# EAGLE library part I__4528 (library ..SMD)
Dual monostable MULTIVIBRATOR
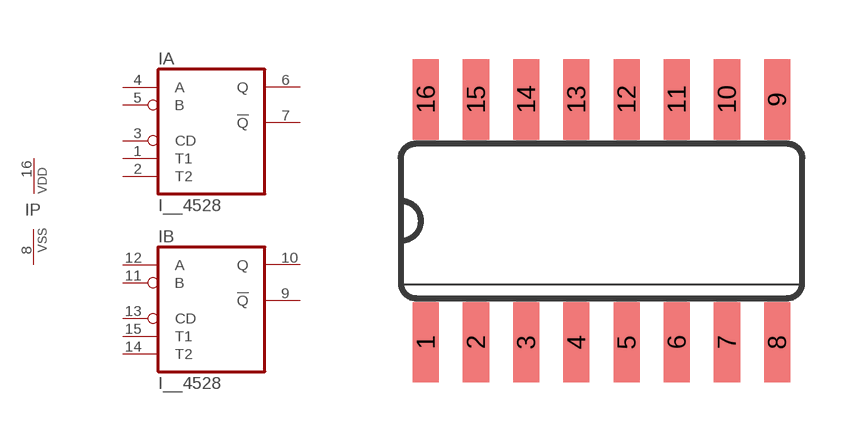
[diagram p112: symbol with the pads of SO16; footprint SO16]

Designator prefix I; gates A=4528 B=4528 P=PWRN

## I__4528D  [SO16]
1  A:T1  in
2  A:T2  in
3  A:CD  in
4  A:A  in
5  A:B  in
6  A:Q  out
7  A:!Q  out
8  P:VSS  pwr
9  B:!Q  out
10  B:Q  out
11  B:B  in
12  B:A  in
13  B:CD  in
14  B:T2  in
15  B:T1  in
16  P:VDD  pwr

## Footprint SO16 (pad centres in mm)
Small Outline Package 16
smd 0.66 x 2.032: 1 -4.445,-3.073; 2 -3.175,-3.073; 3 -1.905,-3.073; 4 -0.635,-3.073; 5 0.635,-3.073; 6 1.905,-3.073; 7 3.175,-3.073; 8 4.445,-3.073; 9 4.445,3.073; 10 3.175,3.073; 11 1.905,3.073; 12 0.635,3.073; 13 -0.635,3.073; 14 -1.905,3.073; 15 -3.175,3.073; 16 -4.445,3.073